# EAGLE library part 418121270806 (library WS-DISV)
WS-DISV Small Compact SMT with Raised Actuator 2.54 mm Material Properties Cover Material PA9T Cover Flammability Rating UL94 V-0 Base Material PA9T Base Flammability Rating UL94 V-0 Actuator Material co Actuator Flammability Rating UL94 V-0 Contact Plating Gold Terminal Plating Gold General Information Operating Temperature -40 °C up to +85 °C Washable No Electrical Properties IR 100 mA VR 50 V (DC) Contact Resistance Initial 50 mΩ RISO 100 MΩ Withstanding Voltage 500 V (AC) Mechanical Properties Operation Force (Value) 600 g Electrical Life 2000 Times Actuator Type Raise Type Switch Position Off Packaging Properties Packaging Tape and Reel <https://www.we-online.com/components/media/o77515v209%20Family_WS-DISV_SMD_RAISED_ACTUATOR_4181212708xx_4C.jpg> Details see: www.we-online.com/en/components/products/DISV_2_54_SMALL_COMPACT_SMD_WITH_RAISED_ACTUATOR <www.we-online.com/catalog/DISV_2_54_SMALL_COMPACT_SMD_WITH_RAISED_ACTUATOR/?utm_source=eagle_model&utm_medium=description_link&utm_campaign=eisos_eagle> Updated by Ella 2024-05-28 2024 (C) Würth Elektronik
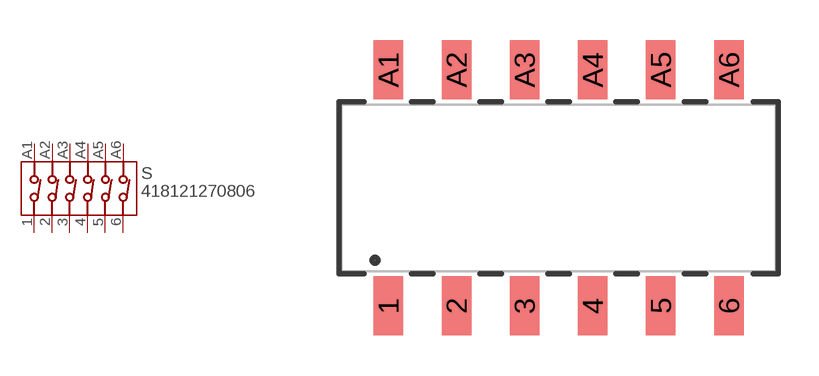
[diagram p3: symbol with the pads of 418121270806; footprint 418121270806]

Designator prefix S

## 418121270806 (DATASHEET-URL: https://www.we-online.com/redexpert/spec/418121270806?ae; LENGTH: 16.18mm; MOUNT: SMT; PART-NUMBER: 418121270806; PITCH: 2.54mm; POLES: 6; VALUE: 418121270806; VAPORPHASE-PROCESS: not specified)  [418121270806]
1  1  pas
2  2  pas
3  3  pas
4  4  pas
5  5  pas
6  6  pas
A1  A1  pas
A2  A2  pas
A3  A3  pas
A4  A4  pas
A5  A5  pas
A6  A6  pas

## Footprint 418121270806 (pad centres in mm)
WS-DISV Small Compact SMT with Raised Actuator 2.54 mm,6poles
smd 1.1 x 2.2: 1 -6.35,-4.4; 2 -3.81,-4.4; 3 -1.27,-4.4; 4 1.27,-4.4; 5 3.81,-4.4; 6 6.35,-4.4; A1 -6.35,4.4; A2 -3.81,4.4; A3 -1.27,4.4; A4 1.27,4.4; A5 3.81,4.4; A6 6.35,4.4